# EAGLE library part HEADER-2X5 (library df4iah)
Header 2X5 2.54mm ISP, JTAG, ...
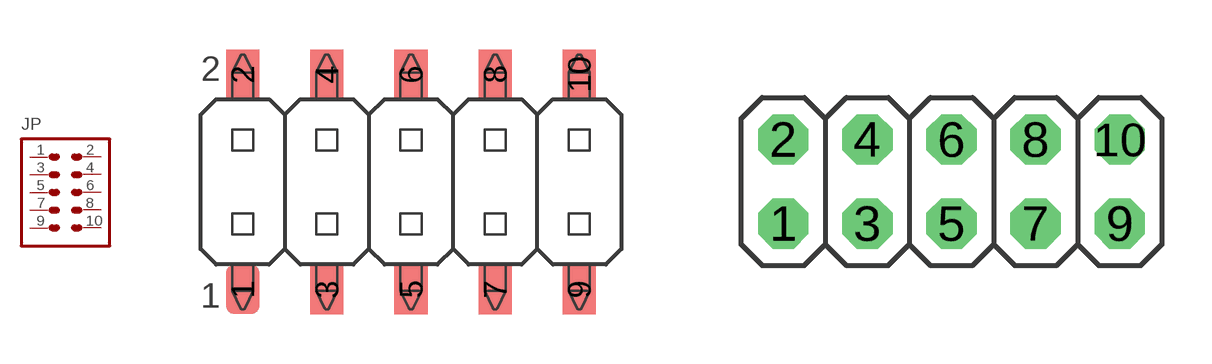
[diagram p36: symbol with the pads of 2X5SMD; footprints 2X5SMD, 2X05]

Designator prefix JP

## HEADER-2X5SMD  [2X5SMD]
1  1  pas
2  2  pas
3  3  pas
4  4  pas
5  5  pas
6  6  pas
7  7  pas
8  8  pas
9  9  pas
10  10  pas

## HEADER-2X5  [2X05]
Pads as for 2X5SMD

## Footprint 2X5SMD (pad centres in mm)
SMD PIN HEADER AVR ISP 10 Pin, 0.1" Straight
smd 1 x 1.5: 1 -5.08,-3.25; 2 -5.08,3.25; 3 -2.54,-3.25; 4 -2.54,3.25; 5 0,-3.25; 6 0,3.25; 7 2.54,-3.25; 8 2.54,3.25; 9 5.08,-3.25; 10 5.08,3.25

## Footprint 2X05 (pad centres in mm)
PIN HEADER
drill 1.016 octagon: 1 -5.08,-1.27; 2 -5.08,1.27; 3 -2.54,-1.27; 4 -2.54,1.27; 5 0,-1.27; 6 0,1.27; 7 2.54,-1.27; 8 2.54,1.27; 9 5.08,-1.27; 10 5.08,1.27